# Altium schematic symbol library optoelectronics.SchLib: 1 symbol
Pins are listed as number, name and electrical type; pins without a type are passive.

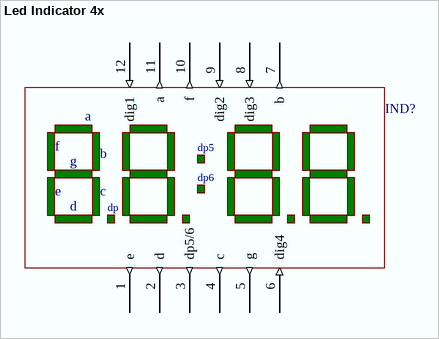
[diagram p0: symbol Led Indicator 4x]

## Led Indicator 4x
designator IND?  (value not drawn)
4x7 LED INDICATOR; DefaultOrder: CA56-21GWA; Order: 7SEG_4X/CA56-21GWA
footprint LED indicator 4x
pins: 1 e (out), 2 d (out), 3 dp5/6 (out), 4 c (out), 5 g (out), 6 dig4 (in), 7 b (out), 8 dig3 (in), 9 dig2 (in), 10 f (out), 11 a (out), 12 dig1 (in)
text: dp5; dp6; dp